# EAGLE library part MCP9808 (library heck)
Microchip Technology Inc.’s MCP9808 digital temperature sensor converts temperatures between -20°C and +100°C to a digital word with ±0.25°C/±0.5°C (typical/maximum) accuracy.
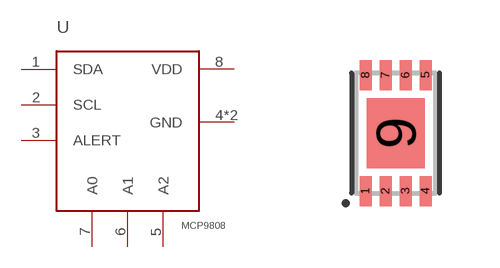
[diagram p24: symbol with the pads of DFN-8; footprint DFN-8]

Designator prefix U

## MCP9808MC  [DFN-8]
1  SDA
2  SCL  in
3  ALERT  out
4  GND  pwr
5  A2  in
6  A1  in
7  A0  in
8  VDD  pwr
9  GND  pwr

## Footprint DFN-8 (pad centres in mm)
smd 0.3 x 0.75: 1 -0.75,-1.45; 2 -0.25,-1.45; 3 0.25,-1.45; 4 0.75,-1.45; 5 0.75,1.45; 6 0.25,1.45; 7 -0.25,1.45; 8 -0.75,1.45
smd 1.45 x 1.75: 9 0,0